# EAGLE library part 5499160-8 (library Tyco_By_element14_Batch_1)
WIRE-BOARD CONN, HEADER, 34POS, 2.54MM
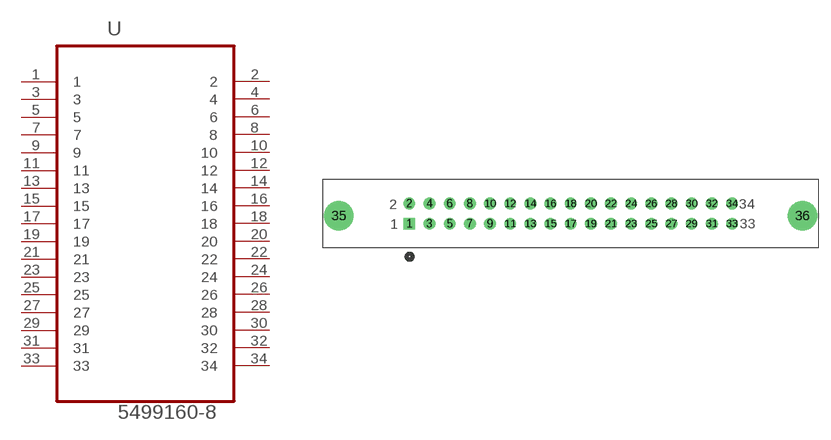
[diagram p123: symbol with the pads of TYCO_5499160-8; footprint TYCO_5499160-8]

Designator prefix U

## 5499160-8 (MPN: 5499160-8; OC_FARNELL: 1768084; OC_NEWARK: 42K7196; PACKAGE: HEADER, 34POS, 2.54MM; SUPPLIER: TycoElectronics)  [TYCO_5499160-8]
1  1  pas
2  2  pas
3  3  pas
4  4  pas
5  5  pas
6  6  pas
7  7  pas
8  8  pas
9  9  pas
10  10  pas
11  11  pas
12  12  pas
13  13  pas
14  14  pas
15  15  pas
16  16  pas
17  17  pas
18  18  pas
19  19  pas
20  20  pas
21  21  pas
22  22  pas
23  23  pas
24  24  pas
25  25  pas
26  26  pas
27  27  pas
28  28  pas
29  29  pas
30  30  pas
31  31  pas
32  32  pas
33  33  pas
34  34  pas

## Footprint TYCO_5499160-8 (pad centres in mm)
drill 0.965 square: 1 -40.64,-2.54
drill 0.965: 2 -40.64,0; 3 -38.1,-2.54; 4 -38.1,0; 5 -35.56,-2.54; 6 -35.56,0; 7 -33.02,-2.54; 8 -33.02,0; 9 -30.48,-2.54; 10 -30.48,0; 11 -27.94,-2.54; 12 -27.94,0; 13 -25.4,-2.54; 14 -25.4,0; 15 -22.86,-2.54; 16 -22.86,0; 17 -20.32,-2.54; 18 -20.32,0; 19 -17.78,-2.54; 20 -17.78,0; 21 -15.24,-2.54; 22 -15.24,0; 23 -12.7,-2.54; 24 -12.7,0; 25 -10.16,-2.54; 26 -10.16,0; 27 -7.62,-2.54; 28 -7.62,0; 29 -5.08,-2.54; 30 -5.08,0; 31 -2.54,-2.54; 32 -2.54,0; 33 0,-2.54; 34 0,0
drill 2.692: 35 -49.53,-1.524; 36 8.89,-1.524